# Altium schematic symbol library Batteries.SchLib: 3 symbols
Pins are listed as number, name and electrical type; pins without a type are passive.

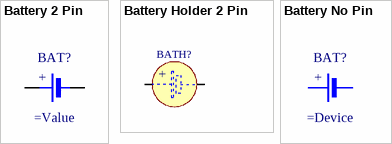
[diagram p0: symbols Battery 2 Pin to Battery No Pin]

## Battery 2 Pin
designator BAT?
Battery 2 Pin
pins: 1 PLUS (power), 2 MINUS (power)
text: +

## Battery Holder 2 Pin
designator BATH?
Battery Holder whit 2 Pin
pins: 1 PLUS (power), 2 MINUS (power)
text: +

## Battery No Pin
designator BAT?
Battery for use only with Socket Holder
text: +